# Altium footprint library PcbLib_DW.PcbLib: 53 footprints (part 2 of 4)
Each footprint in its own frame and in the unit in brackets; x right, y up, seen from the top. Pads: shape width x height; smd on the part's side, far side on the other; paste and mask are expansions set on the pad; w line width, h text height; cw(c..) or ccw(c..) is an arc to the next point about the centre after c.
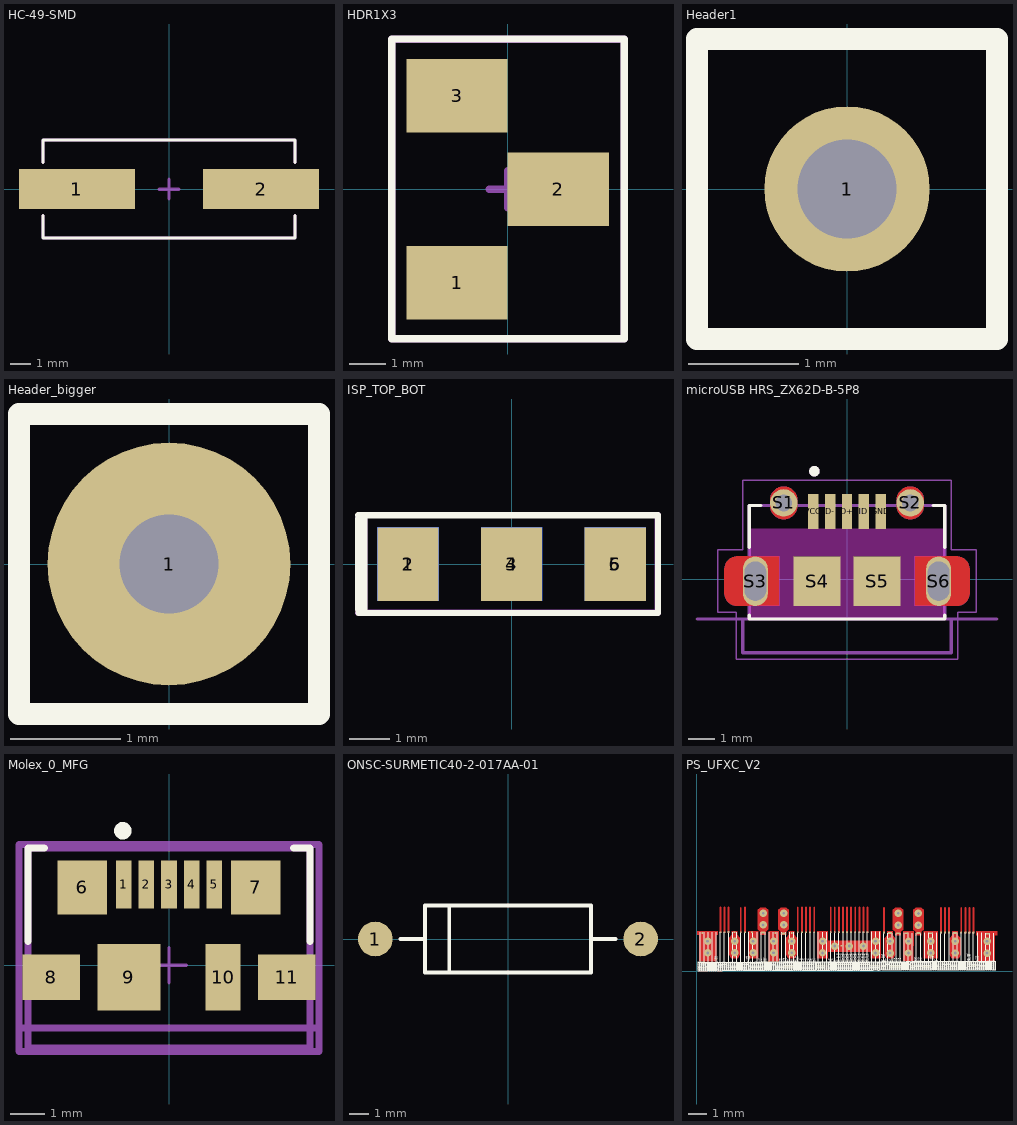
[diagram p1: the footprints below, top view; thin cyan lines are the x and y axes]

## HC-49-SMD [mm]
pads (2):
  rect 5.8x2 smd mask+0: 1(-4.6,0) 2(4.6,0)
Top Overlay:
  lines w0.153: -6.302,-1.333 -6.302,-2.45 -4.9,-2.45 4.9,-2.45 6.298,-2.45 ; -6.297,1.335 -6.297,2.445 ; -6.297,2.45 -4.9,2.45 ; 4.9,2.45 -4.9,2.45 ; 6.298,-2.442 6.298,-1.33 ; 6.299,1.332 6.299,2.445 ; 6.299,2.45 -4.9,2.45
Mechanical 13:
  lines w0.153: -6.305,-2.449 4.894,-2.449 ; -6.305,-2.444 -6.305,-1.332 ; -6.298,1.337 -6.298,2.447 ; -6.298,2.452 -4.901,2.452 ; -4.906,-2.449 4.894,-2.449 ; 4.899,2.452 -4.901,2.452 ; 6.291,-2.449 4.894,-2.449 ; 6.291,-2.445 6.291,-1.335 ; 6.297,1.334 6.297,2.446 ; 6.297,2.452 -4.901,2.452
Mechanical 15:
  lines w0.153: -6.304,-2.452 4.895,-2.452 ; -6.304,-2.447 -6.304,-1.334 ; -6.298,1.337 -6.298,2.447 ; -6.298,2.452 -4.901,2.452 ; -4.905,-2.452 4.895,-2.452 ; -0.499,-0.013 0.001,-0.013 ; -0.001,0.003 -0.001,0.503 ; 0,-0.5 0,0 ; 0.004,-0.011 0.504,-0.011 ; 4.899,2.452 -4.901,2.452 ; 6.292,-2.452 4.895,-2.452 ; 6.292,-2.447 6.292,-1.337 ; 6.298,1.334 6.298,2.446 ; 6.298,2.452 -4.901,2.452

## HDR1X3 [mm] "Connector; Header; 3 Position"
pads (3):
  rect 2.75x2 smd: 1(-1.375,-2.54) 2(1.375,0) 3(-1.375,2.54)
Top Overlay:
  lines w0.2: -3.153,-4.067 -3.153,4.085 3.171,4.085 3.171,-4.067 -3.153,-4.067
Mechanical 13:
  lines w0.2: -3.153,-4.067 -3.153,4.085 3.171,4.085 3.171,-4.067 -3.153,-4.067
Mechanical 15:
  lines w0.2: -0.5,0 0.5,0 ; 0,-0.5 0,0.5 ; -3.157,-4.07 -3.157,4.081 3.167,4.081 3.167,-4.07 -3.157,-4.07

## Header1 [mm]
pads (1):
  round 1.5 hole 0.9: 1(0,0)
Top Overlay:
  lines w0.2: -1.36,-1.36 -1.36,1.36 1.36,1.36 1.36,-1.36 -1.36,-1.36

## Header_bigger [mm]
pads (1):
  round 2.2 hole 0.9: 1(0,0)
Top Overlay:
  lines w0.2: -1.36,-1.36 1.36,-1.36 1.36,1.36 -1.36,1.36 -1.36,-1.36

## ISP_TOP_BOT [mm]
pads (6):
  rect 1.5x1.8 smd mask+0: 1(-2.54,0) 3(0,0) 5(2.54,0)
  rect 1.5x1.8 smd far side mask+0: 2(-2.54,0) 4(0,0) 6(2.54,0)
Top Overlay:
  lines w0.153: -3.762,1.2 3.589,1.2 3.589,-1.2 -3.758,-1.2
  lines w0.3: -3.686,-1.1 -3.686,1.1
Mechanical 13:
  lines w0.153: -3.765,1.203 3.586,1.203 3.586,-1.197 -3.761,-1.197
  lines w0.3: -3.688,-1.097 -3.688,1.103
Mechanical 15:
  lines w0.153: -3.768,1.204 3.583,1.204 3.583,-1.196 -3.764,-1.196 ; -0.301,-0.005 -0.001,-0.005 0.299,-0.005 ; 0,-0.3 0,0 0,0.3
  lines w0.3: -3.691,-1.096 -3.691,1.104

## MF-MSMF [mm]

## microUSB HRS_ZX62D-B-5P8 [mm]
pads (11):
  rect 0.4x1.35 smd: D+(0,2.6) D-(-0.65,2.6) GND(1.3,2.6) ID(0.65,2.6) VCC(-1.3,2.6)
  round 1.05 hole 0.65: S1(-2.425,2.925) S2(2.425,2.925)
  oval 0.95x1.9 hole 0.825 slot 1.5 at 90 deg: S3(-3.512,-0.075) S6(3.512,-0.075)
  rect 1.8x1.9 smd: S4(-1.15,-0.075) S5(1.15,-0.075)
Top Layer:
  region: 4.226,0.874 4.252,0.872 4.278,0.869 4.304,0.864 4.329,0.858 4.355,0.851 4.379,0.842 4.403,0.832 4.427,0.821 4.45,0.808 4.472,0.794 4.494,0.78 4.515,0.764 4.535,0.747 4.554,0.729 4.572,0.71 4.589,0.69 4.605,0.669 4.619,0.647 4.633,0.625 4.646,0.602 4.657,0.578 4.667,0.554 4.676,0.53 4.683,0.504 4.689,0.479 4.694,0.453 4.697,0.427 4.699,0.401 4.7,0.375 4.7,-0.075 3.925,-0.075 3.925,0.4 3.925,0.414 3.923,0.429 3.922,0.443 3.919,0.457 3.916,0.471 3.912,0.485 3.907,0.499 3.901,0.512 3.895,0.525 3.888,0.537 3.881,0.55 3.872,0.562 3.864,0.573 3.854,0.584 3.844,0.594 3.834,0.604 3.823,0.614 3.812,0.622 3.8,0.631 3.788,0.638 3.775,0.645 3.762,0.651 3.749,0.657 3.735,0.662 3.721,0.666 3.707,0.669 3.693,0.672 3.679,0.673 3.664,0.675 3.65,0.675 3.4,0.675 3.384,0.675 3.369,0.673 3.353,0.671 3.338,0.668 3.322,0.665 3.307,0.66 3.292,0.655 3.278,0.649 3.264,0.642 3.25,0.635 3.237,0.627 3.224,0.618 3.211,0.608 3.199,0.598 3.188,0.587 3.177,0.576 3.167,0.564 3.157,0.551 3.148,0.538 3.14,0.525 3.133,0.511 3.126,0.497 3.12,0.483 3.115,0.468 3.11,0.453 3.107,0.437 3.104,0.422 3.102,0.406 3.1,0.391 3.1,0.375 3.1,-0.075 2.6,-0.075 2.6,0.875 4.2,0.875
  region: -2.6,-1.025 -4.2,-1.025 -4.226,-1.024 -4.252,-1.022 -4.278,-1.019 -4.304,-1.014 -4.329,-1.008 -4.355,-1.001 -4.379,-0.992 -4.403,-0.982 -4.427,-0.971 -4.45,-0.958 -4.472,-0.944 -4.494,-0.93 -4.515,-0.914 -4.535,-0.897 -4.554,-0.879 -4.572,-0.86 -4.589,-0.84 -4.605,-0.819 -4.619,-0.797 -4.633,-0.775 -4.646,-0.752 -4.657,-0.728 -4.667,-0.704 -4.676,-0.68 -4.683,-0.654 -4.689,-0.629 -4.694,-0.603 -4.697,-0.577 -4.699,-0.551 -4.7,-0.525 -4.7,-0.075 -3.925,-0.075 -3.925,-0.55 -3.925,-0.564 -3.923,-0.579 -3.922,-0.593 -3.919,-0.607 -3.916,-0.621 -3.912,-0.635 -3.907,-0.649 -3.901,-0.662 -3.895,-0.675 -3.888,-0.687 -3.881,-0.7 -3.872,-0.712 -3.864,-0.723 -3.854,-0.734 -3.844,-0.744 -3.834,-0.754 -3.823,-0.764 -3.812,-0.772 -3.8,-0.781 -3.788,-0.788 -3.775,-0.795 -3.762,-0.801 -3.749,-0.807 -3.735,-0.812 -3.721,-0.816 -3.707,-0.819 -3.693,-0.822 -3.679,-0.823 -3.664,-0.825 -3.65,-0.825 -3.4,-0.825 -3.384,-0.825 -3.369,-0.823 -3.353,-0.821 -3.338,-0.818 -3.322,-0.815 -3.307,-0.81 -3.292,-0.805 -3.278,-0.799 -3.264,-0.792 -3.25,-0.785 -3.237,-0.777 -3.224,-0.768 -3.211,-0.758 -3.199,-0.748 -3.188,-0.737 -3.177,-0.726 -3.167,-0.714 -3.157,-0.701 -3.148,-0.688 -3.14,-0.675 -3.133,-0.661 -3.126,-0.647 -3.12,-0.633 -3.115,-0.618 -3.11,-0.603 -3.107,-0.587 -3.104,-0.572 -3.102,-0.556 -3.1,-0.541 -3.1,-0.525 -3.1,-0.075 -2.6,-0.075
  region: 4.7,-0.525 4.699,-0.551 4.697,-0.577 4.694,-0.603 4.689,-0.629 4.683,-0.654 4.676,-0.68 4.667,-0.704 4.657,-0.728 4.646,-0.752 4.633,-0.775 4.619,-0.797 4.605,-0.819 4.589,-0.84 4.572,-0.86 4.554,-0.879 4.535,-0.897 4.515,-0.914 4.494,-0.93 4.472,-0.944 4.45,-0.958 4.427,-0.971 4.403,-0.982 4.379,-0.992 4.355,-1.001 4.329,-1.008 4.304,-1.014 4.278,-1.019 4.252,-1.022 4.226,-1.024 4.2,-1.025 2.6,-1.025 2.6,-0.075 3.1,-0.075 3.1,-0.525 3.1,-0.541 3.102,-0.556 3.104,-0.572 3.107,-0.587 3.11,-0.603 3.115,-0.618 3.12,-0.633 3.126,-0.647 3.133,-0.661 3.14,-0.675 3.148,-0.688 3.157,-0.701 3.167,-0.714 3.177,-0.726 3.188,-0.737 3.199,-0.748 3.211,-0.758 3.224,-0.768 3.237,-0.777 3.25,-0.785 3.264,-0.792 3.278,-0.799 3.292,-0.805 3.307,-0.81 3.322,-0.815 3.338,-0.818 3.353,-0.821 3.369,-0.823 3.384,-0.825 3.4,-0.825 3.625,-0.825 3.641,-0.825 3.656,-0.823 3.672,-0.821 3.687,-0.818 3.703,-0.815 3.718,-0.81 3.733,-0.805 3.747,-0.799 3.761,-0.792 3.775,-0.785 3.788,-0.777 3.801,-0.768 3.814,-0.758 3.826,-0.748 3.837,-0.737 3.848,-0.726 3.858,-0.714 3.868,-0.701 3.877,-0.688 3.885,-0.675 3.892,-0.661 3.899,-0.647 3.905,-0.633 3.91,-0.618 3.915,-0.603 3.918,-0.587 3.921,-0.572 3.923,-0.556 3.925,-0.541 3.925,-0.525 3.925,-0.075 4.7,-0.075
  region: -2.6,-0.075 -3.1,-0.075 -3.1,0.375 -3.1,0.391 -3.102,0.406 -3.104,0.422 -3.107,0.437 -3.11,0.453 -3.115,0.468 -3.12,0.483 -3.126,0.497 -3.133,0.511 -3.14,0.525 -3.148,0.538 -3.157,0.551 -3.167,0.564 -3.177,0.576 -3.188,0.587 -3.199,0.598 -3.211,0.608 -3.224,0.618 -3.237,0.627 -3.25,0.635 -3.264,0.642 -3.278,0.649 -3.292,0.655 -3.307,0.66 -3.322,0.665 -3.338,0.668 -3.353,0.671 -3.369,0.673 -3.384,0.675 -3.4,0.675 -3.625,0.675 -3.641,0.675 -3.656,0.673 -3.672,0.671 -3.687,0.668 -3.703,0.665 -3.718,0.66 -3.733,0.655 -3.747,0.649 -3.761,0.642 -3.775,0.635 -3.788,0.627 -3.801,0.618 -3.814,0.608 -3.826,0.598 -3.837,0.587 -3.848,0.576 -3.858,0.564 -3.868,0.551 -3.877,0.538 -3.885,0.525 -3.892,0.511 -3.899,0.497 -3.905,0.483 -3.91,0.468 -3.915,0.453 -3.918,0.437 -3.921,0.422 -3.923,0.406 -3.925,0.391 -3.925,0.375 -3.925,-0.075 -4.7,-0.075 -4.7,0.375 -4.699,0.401 -4.697,0.427 -4.694,0.453 -4.689,0.479 -4.683,0.504 -4.676,0.53 -4.667,0.554 -4.657,0.578 -4.646,0.602 -4.633,0.625 -4.619,0.647 -4.605,0.669 -4.589,0.69 -4.572,0.71 -4.554,0.729 -4.535,0.747 -4.515,0.764 -4.494,0.78 -4.472,0.794 -4.45,0.808 -4.427,0.821 -4.403,0.832 -4.379,0.842 -4.355,0.851 -4.329,0.858 -4.304,0.864 -4.278,0.869 -4.252,0.872 -4.226,0.874 -4.2,0.875 -2.6,0.875
  region: 2.425,3.35 2.408,3.35 2.391,3.348 2.374,3.346 2.357,3.343 2.341,3.339 2.325,3.334 2.309,3.328 2.293,3.322 2.277,3.315 2.262,3.306 2.248,3.298 2.234,3.288 2.22,3.278 2.208,3.267 2.195,3.255 2.183,3.242 2.172,3.23 2.162,3.216 2.152,3.202 2.144,3.187 2.135,3.173 2.128,3.157 2.122,3.141 2.116,3.125 2.111,3.109 2.107,3.093 2.104,3.076 2.102,3.059 2.1,3.042 2.1,3.025 2.1,2.825 2.1,2.808 2.102,2.791 2.104,2.774 2.107,2.757 2.111,2.741 2.116,2.725 2.122,2.709 2.128,2.693 2.135,2.677 2.144,2.662 2.152,2.648 2.162,2.634 2.172,2.62 2.183,2.608 2.195,2.595 2.208,2.583 2.22,2.572 2.234,2.562 2.248,2.552 2.262,2.544 2.277,2.535 2.293,2.528 2.309,2.522 2.325,2.516 2.341,2.511 2.357,2.507 2.374,2.504 2.391,2.502 2.408,2.5 2.425,2.5 2.425,2.3 2.398,2.301 2.37,2.303 2.343,2.306 2.316,2.311 2.289,2.318 2.263,2.326 2.237,2.335 2.211,2.345 2.187,2.357 2.163,2.37 2.139,2.385 2.116,2.4 2.095,2.417 2.074,2.435 2.054,2.454 2.035,2.474 2.017,2.495 2,2.516 1.985,2.539 1.97,2.562 1.957,2.587 1.945,2.611 1.935,2.637 1.926,2.663 1.918,2.689 1.911,2.716 1.906,2.743 1.903,2.77 1.901,2.798 1.9,2.825 1.9,3.025 1.901,3.052 1.903,3.08 1.906,3.107 1.911,3.134 1.918,3.161 1.926,3.187 1.935,3.213 1.945,3.239 1.957,3.263 1.97,3.287 1.985,3.311 2,3.334 2.017,3.355 2.035,3.376 2.054,3.396 2.074,3.415 2.095,3.433 2.116,3.45 2.139,3.465 2.163,3.48 2.187,3.493 2.211,3.505 2.237,3.515 2.263,3.524 2.289,3.532 2.316,3.539 2.343,3.544 2.37,3.547 2.398,3.549 2.425,3.55
  region: 2.452,3.549 2.48,3.547 2.507,3.544 2.534,3.539 2.561,3.532 2.587,3.524 2.613,3.515 2.639,3.505 2.663,3.493 2.688,3.48 2.711,3.465 2.734,3.45 2.755,3.433 2.776,3.415 2.796,3.396 2.815,3.376 2.833,3.355 2.85,3.334 2.865,3.311 2.88,3.287 2.893,3.263 2.905,3.239 2.915,3.213 2.924,3.187 2.932,3.161 2.939,3.134 2.944,3.107 2.947,3.08 2.949,3.052 2.95,3.025 2.95,2.825 2.949,2.798 2.947,2.77 2.944,2.743 2.939,2.716 2.932,2.689 2.924,2.663 2.915,2.637 2.905,2.611 2.893,2.587 2.88,2.562 2.865,2.539 2.85,2.516 2.833,2.495 2.815,2.474 2.796,2.454 2.776,2.435 2.755,2.417 2.734,2.4 2.711,2.385 2.688,2.37 2.663,2.357 2.639,2.345 2.613,2.335 2.587,2.326 2.561,2.318 2.534,2.311 2.507,2.306 2.48,2.303 2.452,2.301 2.425,2.3 2.425,2.5 2.442,2.5 2.459,2.502 2.476,2.504 2.493,2.507 2.509,2.511 2.525,2.516 2.541,2.522 2.557,2.528 2.573,2.535 2.588,2.544 2.602,2.552 2.616,2.562 2.63,2.572 2.642,2.583 2.655,2.595 2.667,2.608 2.678,2.62 2.688,2.634 2.698,2.648 2.706,2.662 2.715,2.677 2.722,2.693 2.728,2.709 2.734,2.725 2.739,2.741 2.743,2.757 2.746,2.774 2.748,2.791 2.75,2.808 2.75,2.825 2.75,3.025 2.75,3.042 2.748,3.059 2.746,3.076 2.743,3.093 2.739,3.109 2.734,3.125 2.728,3.141 2.722,3.157 2.715,3.173 2.706,3.187 2.698,3.202 2.688,3.216 2.678,3.23 2.667,3.242 2.655,3.255 2.642,3.267 2.63,3.278 2.616,3.288 2.602,3.298 2.588,3.306 2.573,3.315 2.557,3.322 2.541,3.328 2.525,3.334 2.509,3.339 2.493,3.343 2.476,3.346 2.459,3.348 2.442,3.35 2.425,3.35 2.425,3.55
  region: -2.425,3.35 -2.442,3.35 -2.459,3.348 -2.476,3.346 -2.493,3.343 -2.509,3.339 -2.525,3.334 -2.541,3.328 -2.557,3.322 -2.573,3.315 -2.588,3.306 -2.602,3.298 -2.616,3.288 -2.63,3.278 -2.642,3.267 -2.655,3.255 -2.667,3.242 -2.678,3.23 -2.688,3.216 -2.698,3.202 -2.706,3.187 -2.715,3.173 -2.722,3.157 -2.728,3.141 -2.734,3.125 -2.739,3.109 -2.743,3.093 -2.746,3.076 -2.748,3.059 -2.75,3.042 -2.75,3.025 -2.75,2.825 -2.75,2.808 -2.748,2.791 -2.746,2.774 -2.743,2.757 -2.739,2.741 -2.734,2.725 -2.728,2.709 -2.722,2.693 -2.715,2.677 -2.706,2.662 -2.698,2.648 -2.688,2.634 -2.678,2.62 -2.667,2.608 -2.655,2.595 -2.642,2.583 -2.63,2.572 -2.616,2.562 -2.602,2.552 -2.588,2.544 -2.573,2.535 -2.557,2.528 -2.541,2.522 -2.525,2.516 -2.509,2.511 -2.493,2.507 -2.476,2.504 -2.459,2.502 -2.442,2.5 -2.425,2.5 -2.425,2.3 -2.452,2.301 -2.48,2.303 -2.507,2.306 -2.534,2.311 -2.561,2.318 -2.587,2.326 -2.613,2.335 -2.639,2.345 -2.663,2.357 -2.688,2.37 -2.711,2.385 -2.734,2.4 -2.755,2.417 -2.776,2.435 -2.796,2.454 -2.815,2.474 -2.833,2.495 -2.85,2.516 -2.865,2.539 -2.88,2.562 -2.893,2.587 -2.905,2.611 -2.915,2.637 -2.924,2.663 -2.932,2.689 -2.939,2.716 -2.944,2.743 -2.947,2.77 -2.949,2.798 -2.95,2.825 -2.95,3.025 -2.949,3.052 -2.947,3.08 -2.944,3.107 -2.939,3.134 -2.932,3.161 -2.924,3.187 -2.915,3.213 -2.905,3.239 -2.893,3.263 -2.88,3.287 -2.865,3.311 -2.85,3.334 -2.833,3.355 -2.815,3.376 -2.796,3.396 -2.776,3.415 -2.755,3.433 -2.734,3.45 -2.711,3.465 -2.688,3.48 -2.663,3.493 -2.639,3.505 -2.613,3.515 -2.587,3.524 -2.561,3.532 -2.534,3.539 -2.507,3.544 -2.48,3.547 -2.452,3.549 -2.425,3.55
  region: -2.398,3.549 -2.37,3.547 -2.343,3.544 -2.316,3.539 -2.289,3.532 -2.263,3.524 -2.237,3.515 -2.211,3.505 -2.187,3.493 -2.163,3.48 -2.139,3.465 -2.116,3.45 -2.095,3.433 -2.074,3.415 -2.054,3.396 -2.035,3.376 -2.017,3.355 -2,3.334 -1.985,3.311 -1.97,3.287 -1.957,3.263 -1.945,3.239 -1.935,3.213 -1.926,3.187 -1.918,3.161 -1.911,3.134 -1.906,3.107 -1.903,3.08 -1.901,3.052 -1.9,3.025 -1.9,2.825 -1.901,2.798 -1.903,2.77 -1.906,2.743 -1.911,2.716 -1.918,2.689 -1.926,2.663 -1.935,2.637 -1.945,2.611 -1.957,2.587 -1.97,2.562 -1.985,2.539 -2,2.516 -2.017,2.495 -2.035,2.474 -2.054,2.454 -2.074,2.435 -2.095,2.417 -2.116,2.4 -2.139,2.385 -2.163,2.37 -2.187,2.357 -2.211,2.345 -2.237,2.335 -2.263,2.326 -2.289,2.318 -2.316,2.311 -2.343,2.306 -2.37,2.303 -2.398,2.301 -2.425,2.3 -2.425,2.5 -2.408,2.5 -2.391,2.502 -2.374,2.504 -2.357,2.507 -2.341,2.511 -2.325,2.516 -2.309,2.522 -2.293,2.528 -2.277,2.535 -2.262,2.544 -2.248,2.552 -2.234,2.562 -2.22,2.572 -2.208,2.583 -2.195,2.595 -2.183,2.608 -2.172,2.62 -2.162,2.634 -2.152,2.648 -2.144,2.662 -2.135,2.677 -2.128,2.693 -2.122,2.709 -2.116,2.725 -2.111,2.741 -2.107,2.757 -2.104,2.774 -2.102,2.791 -2.1,2.808 -2.1,2.825 -2.1,3.025 -2.1,3.042 -2.102,3.059 -2.104,3.076 -2.107,3.093 -2.111,3.109 -2.116,3.125 -2.122,3.141 -2.128,3.157 -2.135,3.173 -2.144,3.187 -2.152,3.202 -2.162,3.216 -2.172,3.23 -2.183,3.242 -2.195,3.255 -2.208,3.267 -2.22,3.278 -2.234,3.288 -2.248,3.298 -2.262,3.306 -2.277,3.315 -2.293,3.322 -2.309,3.328 -2.325,3.334 -2.341,3.339 -2.357,3.343 -2.374,3.346 -2.391,3.348 -2.408,3.35 -2.425,3.35 -2.425,3.55
Bottom Layer:
  region: 4.226,0.874 4.252,0.872 4.278,0.869 4.304,0.864 4.329,0.858 4.355,0.851 4.379,0.842 4.403,0.832 4.427,0.821 4.45,0.808 4.472,0.794 4.494,0.78 4.515,0.764 4.535,0.747 4.554,0.729 4.572,0.71 4.589,0.69 4.605,0.669 4.619,0.647 4.633,0.625 4.646,0.602 4.657,0.578 4.667,0.554 4.676,0.53 4.683,0.504 4.689,0.479 4.694,0.453 4.697,0.427 4.699,0.401 4.7,0.375 4.7,-0.075 3.925,-0.075 3.925,0.4 3.925,0.414 3.923,0.429 3.922,0.443 3.919,0.457 3.916,0.471 3.912,0.485 3.907,0.499 3.901,0.512 3.895,0.525 3.888,0.537 3.881,0.55 3.872,0.562 3.864,0.573 3.854,0.584 3.844,0.594 3.834,0.604 3.823,0.614 3.812,0.622 3.8,0.631 3.788,0.638 3.775,0.645 3.762,0.651 3.749,0.657 3.735,0.662 3.721,0.666 3.707,0.669 3.693,0.672 3.679,0.673 3.664,0.675 3.65,0.675 3.4,0.675 3.384,0.675 3.369,0.673 3.353,0.671 3.338,0.668 3.322,0.665 3.307,0.66 3.292,0.655 3.278,0.649 3.264,0.642 3.25,0.635 3.237,0.627 3.224,0.618 3.211,0.608 3.199,0.598 3.188,0.587 3.177,0.576 3.167,0.564 3.157,0.551 3.148,0.538 3.14,0.525 3.133,0.511 3.126,0.497 3.12,0.483 3.115,0.468 3.11,0.453 3.107,0.437 3.104,0.422 3.102,0.406 3.1,0.391 3.1,0.375 3.1,-0.075 2.6,-0.075 2.6,0.875 4.2,0.875
  region: -2.6,-1.025 -4.2,-1.025 -4.226,-1.024 -4.252,-1.022 -4.278,-1.019 -4.304,-1.014 -4.329,-1.008 -4.355,-1.001 -4.379,-0.992 -4.403,-0.982 -4.427,-0.971 -4.45,-0.958 -4.472,-0.944 -4.494,-0.93 -4.515,-0.914 -4.535,-0.897 -4.554,-0.879 -4.572,-0.86 -4.589,-0.84 -4.605,-0.819 -4.619,-0.797 -4.633,-0.775 -4.646,-0.752 -4.657,-0.728 -4.667,-0.704 -4.676,-0.68 -4.683,-0.654 -4.689,-0.629 -4.694,-0.603 -4.697,-0.577 -4.699,-0.551 -4.7,-0.525 -4.7,-0.075 -3.925,-0.075 -3.925,-0.55 -3.925,-0.564 -3.923,-0.579 -3.922,-0.593 -3.919,-0.607 -3.916,-0.621 -3.912,-0.635 -3.907,-0.649 -3.901,-0.662 -3.895,-0.675 -3.888,-0.687 -3.881,-0.7 -3.872,-0.712 -3.864,-0.723 -3.854,-0.734 -3.844,-0.744 -3.834,-0.754 -3.823,-0.764 -3.812,-0.772 -3.8,-0.781 -3.788,-0.788 -3.775,-0.795 -3.762,-0.801 -3.749,-0.807 -3.735,-0.812 -3.721,-0.816 -3.707,-0.819 -3.693,-0.822 -3.679,-0.823 -3.664,-0.825 -3.65,-0.825 -3.4,-0.825 -3.384,-0.825 -3.369,-0.823 -3.353,-0.821 -3.338,-0.818 -3.322,-0.815 -3.307,-0.81 -3.292,-0.805 -3.278,-0.799 -3.264,-0.792 -3.25,-0.785 -3.237,-0.777 -3.224,-0.768 -3.211,-0.758 -3.199,-0.748 -3.188,-0.737 -3.177,-0.726 -3.167,-0.714 -3.157,-0.701 -3.148,-0.688 -3.14,-0.675 -3.133,-0.661 -3.126,-0.647 -3.12,-0.633 -3.115,-0.618 -3.11,-0.603 -3.107,-0.587 -3.104,-0.572 -3.102,-0.556 -3.1,-0.541 -3.1,-0.525 -3.1,-0.075 -2.6,-0.075
  region: 4.7,-0.525 4.699,-0.551 4.697,-0.577 4.694,-0.603 4.689,-0.629 4.683,-0.654 4.676,-0.68 4.667,-0.704 4.657,-0.728 4.646,-0.752 4.633,-0.775 4.619,-0.797 4.605,-0.819 4.589,-0.84 4.572,-0.86 4.554,-0.879 4.535,-0.897 4.515,-0.914 4.494,-0.93 4.472,-0.944 4.45,-0.958 4.427,-0.971 4.403,-0.982 4.379,-0.992 4.355,-1.001 4.329,-1.008 4.304,-1.014 4.278,-1.019 4.252,-1.022 4.226,-1.024 4.2,-1.025 2.6,-1.025 2.6,-0.075 3.1,-0.075 3.1,-0.525 3.1,-0.541 3.102,-0.556 3.104,-0.572 3.107,-0.587 3.11,-0.603 3.115,-0.618 3.12,-0.633 3.126,-0.647 3.133,-0.661 3.14,-0.675 3.148,-0.688 3.157,-0.701 3.167,-0.714 3.177,-0.726 3.188,-0.737 3.199,-0.748 3.211,-0.758 3.224,-0.768 3.237,-0.777 3.25,-0.785 3.264,-0.792 3.278,-0.799 3.292,-0.805 3.307,-0.81 3.322,-0.815 3.338,-0.818 3.353,-0.821 3.369,-0.823 3.384,-0.825 3.4,-0.825 3.625,-0.825 3.641,-0.825 3.656,-0.823 3.672,-0.821 3.687,-0.818 3.703,-0.815 3.718,-0.81 3.733,-0.805 3.747,-0.799 3.761,-0.792 3.775,-0.785 3.788,-0.777 3.801,-0.768 3.814,-0.758 3.826,-0.748 3.837,-0.737 3.848,-0.726 3.858,-0.714 3.868,-0.701 3.877,-0.688 3.885,-0.675 3.892,-0.661 3.899,-0.647 3.905,-0.633 3.91,-0.618 3.915,-0.603 3.918,-0.587 3.921,-0.572 3.923,-0.556 3.925,-0.541 3.925,-0.525 3.925,-0.075 4.7,-0.075
  region: -2.6,-0.075 -3.1,-0.075 -3.1,0.375 -3.1,0.391 -3.102,0.406 -3.104,0.422 -3.107,0.437 -3.11,0.453 -3.115,0.468 -3.12,0.483 -3.126,0.497 -3.133,0.511 -3.14,0.525 -3.148,0.538 -3.157,0.551 -3.167,0.564 -3.177,0.576 -3.188,0.587 -3.199,0.598 -3.211,0.608 -3.224,0.618 -3.237,0.627 -3.25,0.635 -3.264,0.642 -3.278,0.649 -3.292,0.655 -3.307,0.66 -3.322,0.665 -3.338,0.668 -3.353,0.671 -3.369,0.673 -3.384,0.675 -3.4,0.675 -3.625,0.675 -3.641,0.675 -3.656,0.673 -3.672,0.671 -3.687,0.668 -3.703,0.665 -3.718,0.66 -3.733,0.655 -3.747,0.649 -3.761,0.642 -3.775,0.635 -3.788,0.627 -3.801,0.618 -3.814,0.608 -3.826,0.598 -3.837,0.587 -3.848,0.576 -3.858,0.564 -3.868,0.551 -3.877,0.538 -3.885,0.525 -3.892,0.511 -3.899,0.497 -3.905,0.483 -3.91,0.468 -3.915,0.453 -3.918,0.437 -3.921,0.422 -3.923,0.406 -3.925,0.391 -3.925,0.375 -3.925,-0.075 -4.7,-0.075 -4.7,0.375 -4.699,0.401 -4.697,0.427 -4.694,0.453 -4.689,0.479 -4.683,0.504 -4.676,0.53 -4.667,0.554 -4.657,0.578 -4.646,0.602 -4.633,0.625 -4.619,0.647 -4.605,0.669 -4.589,0.69 -4.572,0.71 -4.554,0.729 -4.535,0.747 -4.515,0.764 -4.494,0.78 -4.472,0.794 -4.45,0.808 -4.427,0.821 -4.403,0.832 -4.379,0.842 -4.355,0.851 -4.329,0.858 -4.304,0.864 -4.278,0.869 -4.252,0.872 -4.226,0.874 -4.2,0.875 -2.6,0.875
  region: 2.425,3.35 2.408,3.35 2.391,3.348 2.374,3.346 2.357,3.343 2.341,3.339 2.325,3.334 2.309,3.328 2.293,3.322 2.277,3.315 2.262,3.306 2.248,3.298 2.234,3.288 2.22,3.278 2.208,3.267 2.195,3.255 2.183,3.242 2.172,3.23 2.162,3.216 2.152,3.202 2.144,3.187 2.135,3.173 2.128,3.157 2.122,3.141 2.116,3.125 2.111,3.109 2.107,3.093 2.104,3.076 2.102,3.059 2.1,3.042 2.1,3.025 2.1,2.825 2.1,2.808 2.102,2.791 2.104,2.774 2.107,2.757 2.111,2.741 2.116,2.725 2.122,2.709 2.128,2.693 2.135,2.677 2.144,2.662 2.152,2.648 2.162,2.634 2.172,2.62 2.183,2.608 2.195,2.595 2.208,2.583 2.22,2.572 2.234,2.562 2.248,2.552 2.262,2.544 2.277,2.535 2.293,2.528 2.309,2.522 2.325,2.516 2.341,2.511 2.357,2.507 2.374,2.504 2.391,2.502 2.408,2.5 2.425,2.5 2.425,2.3 2.398,2.301 2.37,2.303 2.343,2.306 2.316,2.311 2.289,2.318 2.263,2.326 2.237,2.335 2.211,2.345 2.187,2.357 2.163,2.37 2.139,2.385 2.116,2.4 2.095,2.417 2.074,2.435 2.054,2.454 2.035,2.474 2.017,2.495 2,2.516 1.985,2.539 1.97,2.562 1.957,2.587 1.945,2.611 1.935,2.637 1.926,2.663 1.918,2.689 1.911,2.716 1.906,2.743 1.903,2.77 1.901,2.798 1.9,2.825 1.9,3.025 1.901,3.052 1.903,3.08 1.906,3.107 1.911,3.134 1.918,3.161 1.926,3.187 1.935,3.213 1.945,3.239 1.957,3.263 1.97,3.287 1.985,3.311 2,3.334 2.017,3.355 2.035,3.376 2.054,3.396 2.074,3.415 2.095,3.433 2.116,3.45 2.139,3.465 2.163,3.48 2.187,3.493 2.211,3.505 2.237,3.515 2.263,3.524 2.289,3.532 2.316,3.539 2.343,3.544 2.37,3.547 2.398,3.549 2.425,3.55
  region: 2.452,3.549 2.48,3.547 2.507,3.544 2.534,3.539 2.561,3.532 2.587,3.524 2.613,3.515 2.639,3.505 2.663,3.493 2.688,3.48 2.711,3.465 2.734,3.45 2.755,3.433 2.776,3.415 2.796,3.396 2.815,3.376 2.833,3.355 2.85,3.334 2.865,3.311 2.88,3.287 2.893,3.263 2.905,3.239 2.915,3.213 2.924,3.187 2.932,3.161 2.939,3.134 2.944,3.107 2.947,3.08 2.949,3.052 2.95,3.025 2.95,2.825 2.949,2.798 2.947,2.77 2.944,2.743 2.939,2.716 2.932,2.689 2.924,2.663 2.915,2.637 2.905,2.611 2.893,2.587 2.88,2.562 2.865,2.539 2.85,2.516 2.833,2.495 2.815,2.474 2.796,2.454 2.776,2.435 2.755,2.417 2.734,2.4 2.711,2.385 2.688,2.37 2.663,2.357 2.639,2.345 2.613,2.335 2.587,2.326 2.561,2.318 2.534,2.311 2.507,2.306 2.48,2.303 2.452,2.301 2.425,2.3 2.425,2.5 2.442,2.5 2.459,2.502 2.476,2.504 2.493,2.507 2.509,2.511 2.525,2.516 2.541,2.522 2.557,2.528 2.573,2.535 2.588,2.544 2.602,2.552 2.616,2.562 2.63,2.572 2.642,2.583 2.655,2.595 2.667,2.608 2.678,2.62 2.688,2.634 2.698,2.648 2.706,2.662 2.715,2.677 2.722,2.693 2.728,2.709 2.734,2.725 2.739,2.741 2.743,2.757 2.746,2.774 2.748,2.791 2.75,2.808 2.75,2.825 2.75,3.025 2.75,3.042 2.748,3.059 2.746,3.076 2.743,3.093 2.739,3.109 2.734,3.125 2.728,3.141 2.722,3.157 2.715,3.173 2.706,3.187 2.698,3.202 2.688,3.216 2.678,3.23 2.667,3.242 2.655,3.255 2.642,3.267 2.63,3.278 2.616,3.288 2.602,3.298 2.588,3.306 2.573,3.315 2.557,3.322 2.541,3.328 2.525,3.334 2.509,3.339 2.493,3.343 2.476,3.346 2.459,3.348 2.442,3.35 2.425,3.35 2.425,3.55
  region: -2.425,3.35 -2.442,3.35 -2.459,3.348 -2.476,3.346 -2.493,3.343 -2.509,3.339 -2.525,3.334 -2.541,3.328 -2.557,3.322 -2.573,3.315 -2.588,3.306 -2.602,3.298 -2.616,3.288 -2.63,3.278 -2.642,3.267 -2.655,3.255 -2.667,3.242 -2.678,3.23 -2.688,3.216 -2.698,3.202 -2.706,3.187 -2.715,3.173 -2.722,3.157 -2.728,3.141 -2.734,3.125 -2.739,3.109 -2.743,3.093 -2.746,3.076 -2.748,3.059 -2.75,3.042 -2.75,3.025 -2.75,2.825 -2.75,2.808 -2.748,2.791 -2.746,2.774 -2.743,2.757 -2.739,2.741 -2.734,2.725 -2.728,2.709 -2.722,2.693 -2.715,2.677 -2.706,2.662 -2.698,2.648 -2.688,2.634 -2.678,2.62 -2.667,2.608 -2.655,2.595 -2.642,2.583 -2.63,2.572 -2.616,2.562 -2.602,2.552 -2.588,2.544 -2.573,2.535 -2.557,2.528 -2.541,2.522 -2.525,2.516 -2.509,2.511 -2.493,2.507 -2.476,2.504 -2.459,2.502 -2.442,2.5 -2.425,2.5 -2.425,2.3 -2.452,2.301 -2.48,2.303 -2.507,2.306 -2.534,2.311 -2.561,2.318 -2.587,2.326 -2.613,2.335 -2.639,2.345 -2.663,2.357 -2.688,2.37 -2.711,2.385 -2.734,2.4 -2.755,2.417 -2.776,2.435 -2.796,2.454 -2.815,2.474 -2.833,2.495 -2.85,2.516 -2.865,2.539 -2.88,2.562 -2.893,2.587 -2.905,2.611 -2.915,2.637 -2.924,2.663 -2.932,2.689 -2.939,2.716 -2.944,2.743 -2.947,2.77 -2.949,2.798 -2.95,2.825 -2.95,3.025 -2.949,3.052 -2.947,3.08 -2.944,3.107 -2.939,3.134 -2.932,3.161 -2.924,3.187 -2.915,3.213 -2.905,3.239 -2.893,3.263 -2.88,3.287 -2.865,3.311 -2.85,3.334 -2.833,3.355 -2.815,3.376 -2.796,3.396 -2.776,3.415 -2.755,3.433 -2.734,3.45 -2.711,3.465 -2.688,3.48 -2.663,3.493 -2.639,3.505 -2.613,3.515 -2.587,3.524 -2.561,3.532 -2.534,3.539 -2.507,3.544 -2.48,3.547 -2.452,3.549 -2.425,3.55
  region: -2.398,3.549 -2.37,3.547 -2.343,3.544 -2.316,3.539 -2.289,3.532 -2.263,3.524 -2.237,3.515 -2.211,3.505 -2.187,3.493 -2.163,3.48 -2.139,3.465 -2.116,3.45 -2.095,3.433 -2.074,3.415 -2.054,3.396 -2.035,3.376 -2.017,3.355 -2,3.334 -1.985,3.311 -1.97,3.287 -1.957,3.263 -1.945,3.239 -1.935,3.213 -1.926,3.187 -1.918,3.161 -1.911,3.134 -1.906,3.107 -1.903,3.08 -1.901,3.052 -1.9,3.025 -1.9,2.825 -1.901,2.798 -1.903,2.77 -1.906,2.743 -1.911,2.716 -1.918,2.689 -1.926,2.663 -1.935,2.637 -1.945,2.611 -1.957,2.587 -1.97,2.562 -1.985,2.539 -2,2.516 -2.017,2.495 -2.035,2.474 -2.054,2.454 -2.074,2.435 -2.095,2.417 -2.116,2.4 -2.139,2.385 -2.163,2.37 -2.187,2.357 -2.211,2.345 -2.237,2.335 -2.263,2.326 -2.289,2.318 -2.316,2.311 -2.343,2.306 -2.37,2.303 -2.398,2.301 -2.425,2.3 -2.425,2.5 -2.408,2.5 -2.391,2.502 -2.374,2.504 -2.357,2.507 -2.341,2.511 -2.325,2.516 -2.309,2.522 -2.293,2.528 -2.277,2.535 -2.262,2.544 -2.248,2.552 -2.234,2.562 -2.22,2.572 -2.208,2.583 -2.195,2.595 -2.183,2.608 -2.172,2.62 -2.162,2.634 -2.152,2.648 -2.144,2.662 -2.135,2.677 -2.128,2.693 -2.122,2.709 -2.116,2.725 -2.111,2.741 -2.107,2.757 -2.104,2.774 -2.102,2.791 -2.1,2.808 -2.1,2.825 -2.1,3.025 -2.1,3.042 -2.102,3.059 -2.104,3.076 -2.107,3.093 -2.111,3.109 -2.116,3.125 -2.122,3.141 -2.128,3.157 -2.135,3.173 -2.144,3.187 -2.152,3.202 -2.162,3.216 -2.172,3.23 -2.183,3.242 -2.195,3.255 -2.208,3.267 -2.22,3.278 -2.234,3.288 -2.248,3.298 -2.262,3.306 -2.277,3.315 -2.293,3.322 -2.309,3.328 -2.325,3.334 -2.341,3.339 -2.357,3.343 -2.374,3.346 -2.391,3.348 -2.408,3.35 -2.425,3.35 -2.425,3.55
Top Overlay:
  circle w0.2: c-1.25,4.14 r0.1
  lines w0.127: -3.75,-1.375 -3.75,-1.525 3.75,-1.525 3.75,-1.375 ; -3.75,1.225 -3.75,2.825 -3.3,2.825 ; 3.3,2.825 3.75,2.825 3.75,1.225
Top Paste:
  drawing of 8 lines, arcs and shapes, not listed
Bottom Paste:
  drawing of 8 lines, arcs and shapes, not listed
Top Solder:
  region: 4.8,-1.128 2.502,-1.128 2.502,0.975 4.8,0.975
  region: -2.5,-1.126 -4.801,-1.126 -4.801,0.975 -2.5,0.975
  region: 3.05,2.2 1.802,2.2 1.802,3.65 3.05,3.65
  region: -1.8,2.2 -3.051,2.2 -3.051,3.65 -1.8,3.65
Bottom Solder:
  region: 4.8,-1.128 3.75,-1.128 3.75,-1.025 2.6,-1.025 2.6,0.875 3.75,0.875 3.75,0.975 4.8,0.975
  region: -3.75,0.875 -2.6,0.875 -2.6,-1.025 -3.75,-1.025 -3.75,-1.126 -4.801,-1.126 -4.801,0.975 -3.75,0.975
  region: 3.05,2.2 1.802,2.2 1.802,3.65 3.05,3.65
  region: -1.8,2.2 -3.051,2.2 -3.051,3.65 -1.8,3.65
Keep-Out Layer:
  region: 2.6,-1.025 2.05,-1.025 2.05,0.875 2.6,0.875
  region: 0.25,-1.025 -0.25,-1.025 -0.25,0.875 0.25,0.875
  region: -2.05,-1.025 -2.6,-1.025 -2.6,0.875 -2.05,0.875
  region: 3.75,-1.525 -3.75,-1.525 -3.75,-1.025 3.75,-1.025
  region: 3.75,0.875 -3.75,0.875 -3.75,1.925 3.75,1.925
  region: 2.6,-1.025 2.05,-1.025 2.05,0.875 2.6,0.875
  region: 0.25,-1.025 -0.25,-1.025 -0.25,0.875 0.25,0.875
  region: -2.05,-1.025 -2.6,-1.025 -2.6,0.875 -2.05,0.875
  region: 3.75,-1.525 -3.75,-1.525 -3.75,-1.025 3.75,-1.025
  region: 3.75,0.875 -3.75,0.875 -3.75,1.925 3.75,1.925
Mechanical 1:
  lines w0: -3.625,-0.825 -3.4,-0.825 ; -3.625,0.675 -3.4,0.675 ; 3.4,-0.825 3.625,-0.825 ; 3.4,0.675 3.625,0.675 ; -2.75,2.825 ccw(c-2.425,2.825) -2.425,2.5 ccw(c-2.425,2.825) -2.1,2.825 -2.1,3.025 ccw(c-2.425,3.025) -2.425,3.35 ccw(c-2.425,3.025) -2.75,3.025 -2.75,2.825 ; 2.1,2.825 ccw(c2.425,2.825) 2.425,2.5 ccw(c2.425,2.825) 2.75,2.825 2.75,3.025 ccw(c2.425,3.025) 2.425,3.35 ccw(c2.425,3.025) 2.1,3.025 2.1,2.825
Mechanical 13:
  circle w0.2: c-1.25,4.14 r0.1
  lines w0.127: -5.75,-1.525 -3.75,-1.525 ; -4,-1.525 -4,-2.825 4,-2.825 4,-1.525 ; 5.75,-1.525 3.75,-1.525 ; -3.75,-1.525 3.75,-1.525 ; -3.75,-1.525 -3.75,2.825 3.75,2.825 3.75,-1.525
Mechanical 15:
  lines w0.05: -4.95,-1.275 -4.25,-1.275 -4.25,-3.075 4.25,-3.075 4.25,-1.275 4.95,-1.275 4.95,1.125 4,1.125 4,3.8 -4,3.8 -4,1.125 -4.95,1.125 -4.95,-1.275

## Molex_0_MFG [mm]
pads (11):
  rect 0.45x1.38 smd paste+0 mask+0: 1(-1.3,2.31) 2(-0.65,2.31) 3(0,2.31) 4(0.65,2.31) 5(1.3,2.31)
  rect 1.425x1.55 smd paste+0 mask+0: 6(-2.488,2.225) 7(2.488,2.225)
  rect 1.65x1.3 smd paste+0 mask+0: 8(-3.375,-0.35) 11(3.375,-0.35)
  rect 1.8x1.9 smd paste+0 mask+0: 9(-1.15,-0.35)
  rect 1x1.9 smd paste+0 mask+0: 10(1.55,-0.35)
Top Overlay:
  circle w0.25: c-1.325,3.85 r0.125
  lines w0.2: -4.045,0.675 -4.045,3.35 -3.575,3.35 ; 3.575,3.35 4.045,3.35 4.045,0.675
Mechanical 10:
  lines w0.2: -4.3,-2.48 -4.3,3.45 4.3,3.45 4.3,-2.48 -4.3,-2.48
  text ".Designator" at 0,0.485 h1
Mechanical 12:
  lines w0.2: -4.3,-1.8 4.3,-1.8 ; -4.045,-2.38 -4.045,3.35 4.045,3.35 4.045,-2.38 -4.045,-2.38
Mechanical 15:
  lines w0.1: -0.5,0 0.5,0 ; 0,-0.5 0,0.5
  lines w0.2: -4.3,-2.48 -4.3,3.45 4.3,3.45 4.3,-2.48 -4.3,-2.48
3D body "Conn_Molex_473460001_eec.STEP": height 0.25, standoff 0, extent -4.3,-2.48 4.3,3.45

## ONSC-SURMETIC40-2-017AA-01 [mm] "AXIAL, 2-Leads, Diameter 3.49mm"
height 3.49
pads (2):
  round 1.8 smd: 1(-6.887,0) 2(6.887,0)
Top Overlay:
  lines w0.2: -5.587,0 -4.317,0 ; -3.047,-1.745 -3.047,1.745 ; 4.317,0 5.587,0 ; -4.317,-1.745 -4.317,1.745 4.317,1.745 4.317,-1.745 -4.317,-1.745

## PS_UFXC_V2 [mil]
pads (43):
  rect 4x4 smd mask+0: cal_n(93.34,82.86) cal_p(102.04,82.85) ctl_clk_n(231.83,82.86) ctl_clk_p(223.23,82.87) ctl_sin_n(249.46,82.79) ctl_sin_p(240.76,82.76) ctl_sout_n_0(310.78,82.74) ctl_sout_n_1(328.06,82.74) ctl_sout_n_2(345.42,82.75) ctl_sout_n_3(362.71,82.74) ctl_sout_p_0(302.04,82.73) ctl_sout_p_1(319.43,82.73) ctl_sout_p_2(336.79,82.74) ctl_sout_p_3(354.08,82.76) ctl_str_n(293.16,82.71) ctl_str_p(284.51,82.72) i_cas(50.01,82.92) i_dis(588.19,82.51) i_krum(58.63,82.93) i_ref(562.19,82.54) i_sh(570.83,82.52) i_source_ref(579.51,82.52) i_trim(67.34,82.94) lvds_ref_in(214.56,82.85) lvds_ref_out(397.63,82.54) vt_2(536.22,82.53) vt_4(527.56,82.53) vt_r(518.86,82.53)
  rect 3.94x3.94 smd mask+0: vdd_a(117.3,82.82) vdd_m(79.88,82.87) vdd_peri(201.66,81.22) vss(307.56,54.02) vss_a(11.2,81.18) vss_a(166.52,81.13)
  rect 7.87x3.94 smd mask+0: vdd_a_II(497.02,80.66) vdd_core(184.22,80.36) vdd_core_II(427.83,80.74) vdd_discr(140.6,82.11) vdd_discr_II(471.23,81.31) vdd_m_II(548.91,81.09) vdd_peri_II(410.62,81.28) vss_a_II(444.95,80.64) vss_a_II(618.34,79.66)
via 323.94,53.38 diameter 15.91 hole 5.91
via 293.22,53.45 diameter 15.91 hole 5.91
via 617.22,38.53 diameter 15.91 hole 5.91
via 617.04,63.51 diameter 15.91 hole 5.91
via 471.08,98.11 diameter 15.91 hole 5.91
via 471.11,122.96 diameter 15.91 hole 5.91
via 410.77,63.49 diameter 15.91 hole 5.91
via 410.74,38.64 diameter 15.91 hole 5.91
via 380.07,38.84 diameter 15.91 hole 5.91
via 380.09,63.69 diameter 15.91 hole 5.91
via 201.54,38.98 diameter 15.91 hole 5.91
via 201.57,63.83 diameter 15.91 hole 5.91
via 162.95,63.86 diameter 15.91 hole 5.91
via 162.92,39.01 diameter 15.91 hole 5.91
via 140.86,123.24 diameter 15.91 hole 5.91
via 140.83,98.39 diameter 15.91 hole 5.91
via 80.32,63.87 diameter 15.91 hole 5.91
via 22.65,63.83 diameter 15.91 hole 5.91
via 22.83,38.86 diameter 15.91 hole 5.91
via 80.29,39.02 diameter 15.91 hole 5.91
via 119.51,63.87 diameter 15.91 hole 5.91
via 119.48,39.02 diameter 15.91 hole 5.91
via 184.48,123.34 diameter 15.91 hole 5.91
via 184.45,98.48 diameter 15.91 hole 5.91
via 267.13,63.76 diameter 15.91 hole 5.91
via 267.1,38.91 diameter 15.91 hole 5.91
via 354.17,53.35 diameter 15.91 hole 5.91
via 428.07,98.13 diameter 15.91 hole 5.91
via 428.09,122.98 diameter 15.91 hole 5.91
via 449.95,38.68 diameter 15.91 hole 5.91
via 449.98,63.53 diameter 15.91 hole 5.91
via 497.36,38.71 diameter 15.91 hole 5.91
via 497.39,63.56 diameter 15.91 hole 5.91
via 549.37,38.67 diameter 15.91 hole 5.91
via 549.4,63.52 diameter 15.91 hole 5.91
Top Layer:
  region: 638.22,84.54 638.22,76.94 633.78,76.94 633.78,21.74 596.87,21.74 596.87,76.94 594.56,76.94 594.56,84.54
  region: 476.94,76.89 476.94,83.58 481.9,88.54 481.9,130.22 476.97,134.61 464.89,134.61 459.93,130.22 459.93,88.54 464.89,83.58 464.88,76.89
  region: 417.76,27.2 421.99,34.44 421.99,70.34 416.53,76.64 416.53,84.54 404.4,84.54 404.4,76.73 399.45,70.34 399.45,34.44 403.23,27.2
  region: 390.73,27.4 390.75,84.69 369.39,84.69 369.39,70.05 369.39,27.4
  region: 208.56,27.54 212.79,34.78 212.79,70.68 207.33,76.97 207.33,84.88 195.2,84.88 195.2,77.07 190.25,70.68 190.25,34.78 194.03,27.54
  region: 173.58,20.97 173.61,84.86 152.25,84.86 152.25,70.22 152.24,20.97
  region: 130.14,27.58 130.17,84.87 108.81,84.87 108.81,70.23 108.8,27.58
  region: 87.31,27.58 91.54,34.82 91.54,70.72 86.07,77.02 86.08,84.92 73.95,84.92 73.95,77.11 69,70.72 69,34.82 72.78,27.58
  region: 43.83,84.86 43.83,77.27 41.36,77.27 41.36,20.97 4.5,20.97 4.5,77.27 0.17,77.27 0.17,84.86
  region: 146.69,77.16 146.69,83.86 151.65,88.82 151.65,130.49 146.72,134.89 134.64,134.89 129.68,130.49 129.68,88.82 134.64,83.86 134.63,77.16
  region: 190.31,77.26 190.31,83.96 195.27,88.91 195.27,130.59 190.34,134.99 178.26,134.99 173.3,130.59 173.3,88.91 178.26,83.96 178.26,77.26
  region: 277.76,27.47 277.79,84.76 256.42,84.76 256.42,70.12 256.42,27.47
  region: 371.37,64.95 371.37,41.8 275.72,41.8 275.72,64.95
  region: 433.93,76.91 433.93,83.61 438.89,88.56 438.88,130.24 433.96,134.64 421.88,134.64 416.92,130.24 416.92,88.56 421.88,83.61 421.87,76.91
  region: 460.61,21.74 460.64,84.53 439.28,84.53 439.28,69.89 439.27,21.74
  region: 512.15,27.27 512.19,84.57 481.93,84.56 481.93,69.92 481.93,27.28
  region: 556.39,27.23 560.62,34.47 560.62,70.37 555.15,76.66 555.16,84.57 543.03,84.57 543.03,76.76 538.08,70.37 538.08,34.47 541.86,27.23
  lines w4: 50.01,82.92 50.01,135.3 ; 58.63,82.93 58.63,135.5 ; 67.34,82.94 67.34,135.61 ; 93.34,82.86 93.34,134.96 ; 102.04,82.85 102.04,135.04 ; 214.56,82.85 214.56,135.22 ; 223.1,135.46 223.23,82.87 ; 231.83,82.86 231.83,135.24 ; 240.76,82.76 240.76,135.14 ; 249.46,82.79 249.46,135.16 ; 284.51,82.72 284.51,135.1 ; 293.16,82.71 293.16,135.09 ; 302.04,82.73 302.04,135.11 ; 310.78,82.74 310.78,135.12 ; 319.43,82.73 319.43,135.11 ; 328.06,82.74 328.06,135.12 ; 336.79,82.74 336.79,135.12 ; 345.42,82.75 345.42,135.13 ; 354.08,82.76 354.08,135.13 ; 362.71,82.74 362.71,135.12 ; 397.63,82.54 397.63,134.92 ; 518.86,82.53 518.86,134.9 ; 527.56,82.53 527.56,134.91 ; 536.22,82.53 536.22,134.91 ; 562.19,82.54 562.19,134.91 ; 570.83,82.52 570.83,134.9 ; 579.51,82.52 579.51,134.9 ; 588.19,82.51 588.19,134.89
Top Overlay:
  drawing of 730 lines, arcs and shapes, not listed
  text "i_trim" at 69.91,2.3 h1.5
  text "i_trim" at 65.61,2.29 h1.5
  text "detring" at 629.41,3.95 h1.5
  text "detring" at 633.65,3.9 h1.5
  text "vshield" at 625.64,4.07 h1.5
  text "vss_a" at 612.68,4.12 h1.5
  text "vshield" at 621.34,4.06 h1.5
  text "vss_a" at 617.01,4.12 h1.5
  text "vss_a" at 608.32,3.84 h1.5
  text "vss_a" at 603.99,3.82 h1.5
  text "prot_r_vss" at 594.76,3.84 h1.5
  text "prot_r_vss" at 598.99,3.78 h1.5
  text "i_dis" at 590.96,3.81 h1.5
  text "i_dis" at 586.63,3.78 h1.5
  text "i_source_ref" at 577.65,3.8 h1.5
  text "i_source_ref" at 581.88,3.74 h1.5
  text "i_sh" at 569.01,3.77 h1.5
  text "i_sh" at 573.24,3.72 h1.5
  text "i_ref" at 564.74,3.89 h1.5
  text "vdd_m" at 552.02,3.94 h1.5
  text "i_ref" at 560.44,3.87 h1.5
  text "vdd_m" at 556.35,3.94 h1.5
  text "vdd_m" at 547.67,3.66 h1.5
  text "vdd_m" at 543.33,3.64 h1.5
  text "vt_2" at 534.35,3.65 h1.5
  text "vt_2" at 538.59,3.6 h1.5
  text "vt_4" at 525.71,3.63 h1.5
  text "vt_4" at 529.95,3.57 h1.5
  text "vt_r" at 521.44,3.74 h1.5
  text "vdd_ref" at 508.73,3.8 h1.5
  text "vt_r" at 517.14,3.73 h1.5
  text "vdd_ref" at 513.06,3.8 h1.5
  text "prot_r_vdd" at 504.11,3.54 h1.5
  text "prot_r_vdd" at 499.78,3.51 h1.5
  text "vdd_a" at 491.04,3.53 h1.5
  text "vdd_a" at 495.28,3.47 h1.5
  text "vdd_a" at 482.4,3.5 h1.5
  text "vdd_a" at 486.64,3.45 h1.5
  text "vdd_discr" at 478.14,3.62 h1.5
  text "vdd_discr" at 465.42,3.67 h1.5
  text "vdd_discr" at 473.84,3.6 h1.5
  text "vdd_discr" at 469.75,3.67 h1.5
  text "vss_a" at 461.07,3.39 h1.5
  text "vss_a" at 456.73,3.37 h1.5
  text "vss_a" at 447.75,3.38 h1.5
  text "vss_a" at 451.99,3.33 h1.5
  text "Sub!" at 439.36,3.36 h1.5
  text "Sub!" at 443.6,3.3 h1.5
  text "vdd_core" at 434.84,3.47 h1.5
  text "vdd_core" at 422.12,3.53 h1.5
  text "vdd_core" at 430.54,3.46 h1.5
  text "vdd_core" at 426.45,3.52 h1.5
  text "vdd_peri" at 417.52,3.25 h1.5
  text "vdd_peri" at 413.19,3.22 h1.5
  text "vdd_peri" at 404.2,3.24 h1.5
  text "vdd_peri" at 408.44,3.18 h1.5
  text "lvds_ref_out" at 395.81,3.21 h1.5
  text "lvds_ref_out" at 400.05,3.16 h1.5
  text "vss_s" at 391.51,3.19 h1.5
  text "vss_s" at 387.17,3.16 h1.5
  text "vss" at 378.44,3.18 h1.5
  text "vss" at 382.68,3.13 h1.5
  text "vss" at 369.8,3.16 h1.5
  text "vss" at 374.04,3.1 h1.5
  text "ctl_sout_n_3" at 365.28,3.27 h1.5
  text "ctl_sout_p_3" at 352.32,3.32 h1.5
  text "ctl_sout_n_3" at 360.98,3.26 h1.5
  text "ctl_sout_p_3" at 356.64,3.32 h1.5
  text "ctl_sout_n_2" at 348.21,3.05 h1.5
  text "ctl_sout_n_2" at 343.88,3.02 h1.5
  text "ctl_sout_p_2" at 334.64,3.04 h1.5
  text "ctl_sout_p_2" at 338.88,2.98 h1.5
  text "ctl_sout_n_1" at 326.25,3.01 h1.5
  text "ctl_sout_n_1" at 330.49,2.96 h1.5
  text "ctl_sout_p_1" at 321.74,3.13 h1.5
  text "ctl_sout_n_0" at 309.27,3.18 h1.5
  text "ctl_sout_p_1" at 317.43,3.11 h1.5
  text "ctl_sout_n_0" at 313.6,3.18 h1.5
  text "ctl_sout_p_0" at 304.59,2.92 h1.5
  text "ctl_sout_p_0" at 300.25,2.89 h1.5
  text "ctl_str_n" at 295.72,2.98 h1.5
  text "ctl_str_p" at 282.76,3.03 h1.5
  text "ctl_str_n" at 291.42,2.96 h1.5
  text "ctl_str_p" at 287.08,3.03 h1.5
  text "vss" at 278.9,2.75 h1.5
  text "vss" at 274.56,2.73 h1.5
  text "vss" at 265.58,2.75 h1.5
  text "vss" at 269.82,2.69 h1.5
  text "vss_s" at 256.69,2.72 h1.5
  text "vss_s" at 260.93,2.67 h1.5
  text "ctl_sin_n" at 252.23,2.67 h1.5
  text "ctl_sin_n" at 247.89,2.65 h1.5
  text "ctl_sin_p" at 238.66,2.67 h1.5
  text "ctl_sin_p" at 242.9,2.61 h1.5
  text "ctl_clk_n" at 230.34,2.89 h1.5
  text "ctl_clk_n" at 234.67,2.89 h1.5
  text "ctl_clk_p" at 225.74,2.61 h1.5
  text "ctl_clk_p" at 221.4,2.59 h1.5
  text "lvds_ref_in" at 212.67,2.6 h1.5
  text "lvds_ref_in" at 216.91,2.55 h1.5
  text "vdd_peri" at 203.78,2.58 h1.5
  text "vdd_peri" at 208.02,2.52 h1.5
  text "vdd_peri" at 199.51,2.69 h1.5
  text "vdd_core" at 187.05,2.74 h1.5
  text "vdd_peri" at 195.21,2.68 h1.5
  text "vdd_core" at 191.38,2.74 h1.5
  text "vdd_core" at 182.69,2.46 h1.5
  text "vdd_core" at 178.36,2.44 h1.5
  text "Sub!" at 169.63,2.46 h1.5
  text "Sub!" at 173.86,2.4 h1.5
  text "vss_a" at 160.74,2.43 h1.5
  text "vss_a" at 164.97,2.38 h1.5
  text "vss_a" at 156.47,2.54 h1.5
  text "vdd_discr" at 143.75,2.6 h1.5
  text "vss_a" at 152.17,2.53 h1.5
  text "vdd_discr" at 148.08,2.6 h1.5
  text "vdd_discr" at 139.4,2.32 h1.5
  text "vdd_discr" at 135.06,2.3 h1.5
  text "vdd_a" at 126.08,2.31 h1.5
  text "vdd_a" at 130.32,2.26 h1.5
  text "vdd_a" at 117.44,2.29 h1.5
  text "vdd_a" at 121.68,2.23 h1.5
  text "prot_a_vdd" at 112.92,2.4 h1.5
  text "cal_p" at 100.21,2.45 h1.5
  text "prot_a_vdd" at 108.62,2.39 h1.5
  text "cal_p" at 104.54,2.45 h1.5
  text "cal_n" at 96.09,2.19 h1.5
  text "cal_n" at 91.76,2.17 h1.5
  text "vdd_m" at 82.78,2.18 h1.5
  text "vdd_m" at 87.01,2.13 h1.5
  text "vdd_m" at 74.14,2.16 h1.5
  text "vdd_m" at 78.37,2.1 h1.5
  text "i_krum" at 61.21,2.25 h1.5
  text "i_cas" at 48.49,2.3 h1.5
  text "i_krum" at 56.91,2.24 h1.5
  text "i_cas" at 52.82,2.3 h1.5
  text "prot_a_vss" at 43.89,2.03 h1.5
  text "prot_a_vss" at 39.55,2 h1.5
  text "vss_a" at 30.82,2.02 h1.5
  text "vss_a" at 35.06,1.96 h1.5
  text "vss_a" at 22.18,1.99 h1.5
  text "vss_a" at 26.42,1.94 h1.5
  text "vshield" at 18.16,2.11 h1.5
  text "detring" at 4.95,2.16 h1.5
  text "vshield" at 13.86,2.09 h1.5
  text "detring" at 9.28,2.16 h1.5